# Altium schematic symbol library STM32F401RE.SchLib: 14 symbols
Pins are listed as number, name and electrical type; pins without a type are passive.

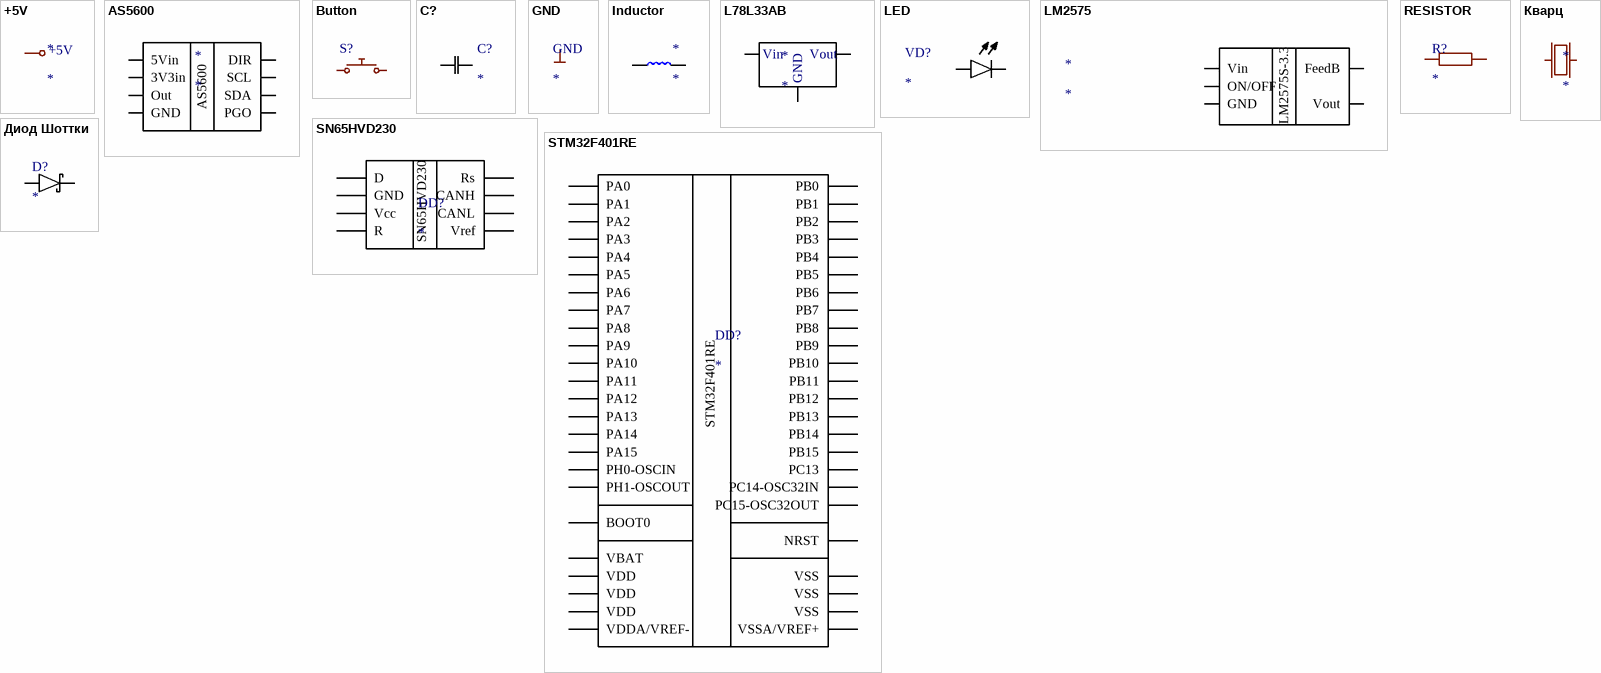
[diagram p0: symbols +5V to Кварц]

## +5V
designator *
pins: ?1

## AS5600
designator *
pins: ?1 5Vin, ?2 3V3in, ?3 Out, ?4 GND, ?5 DIR, ?6 SCL, ?7 SDA, ?8 PGO

## Button
designator S?  (value not drawn)
pins: ?1, ?2

## C?
designator C?
pins: ?1, C? Cond

## GND
designator GND
pins: ?1

## Inductor
designator *
pins: ?1, ?2

## L78L33AB
designator *
pins: ?1, ?2, DA? L78L33AB
text: Vin; Vout; GND

## LED
designator VD?
LED 5mm
pins: ?1, ?2

## LM2575
designator *
pins: ?1 Vin, ?2 ON/OFF, ?3 GND, ?4 FeedB, ?5 Vout
text: LM2575S-3.3

## RESISTOR
designator R?
pins: ?1, ?2

## SN65HVD230
designator DD?
pins: ?1 Vcc, ?2 GND, ?3 R, ?4 D, ?5 Rs, ?6 CANH, ?7 CANL, ?8 Vref

## STM32F401RE
designator DD?
footprint F401RE (Footprint not found)
pins: ?1 PA0, ?2 PA1, ?3 PA2, ?4 PA3, ?5 PA4, ?6 PA5, ?7 PA6, ?8 PA7, ?9 PA8, ?10 PA9, ?11 PA10, ?12 PA11, ?13 PA12, ?14 PA13, ?15 PA14, ?16 PA15, ?17 PH0-OSCIN, ?18 PH1-OSCOUT, ?19 BOOT0, ?20 VBAT, ?21 VDD, ?22 VDD, ?23 VDD, ?24 VDDA/VREF-, ?25 PB0, ?26 PB1, ?27 PB2, ?28 PB3, ?29 PB4, ?30 PB5, ?31 PB6, ?32 PB7, ?33 PB8, ?34 PB9, ?35 PB10, ?36 PB11, ?37 PB12, ?38 PB13, ?39 PB14, ?40 PB15, ?41 PC13, ?42 PC14-OSC32IN, ?43 PC15-OSC32OUT, ?44 NRST, ?45 VSS, ?46 VSS, ?47 VSS, ?48 VSSA/VREF+

## Диод Шоттки
designator D?
pins: ?1, ?2

## Кварц
designator *
pins: ?1, Q? Кварц